# Altium footprint library SOD962.PcbLib: 1 footprints
Each footprint in its own frame and in the unit in brackets; x right, y up, seen from the top. Pads: shape width x height; smd on the part's side, far side on the other; paste and mask are expansions set on the pad; w line width, h text height; cw(c..) or ccw(c..) is an arc to the next point about the centre after c.
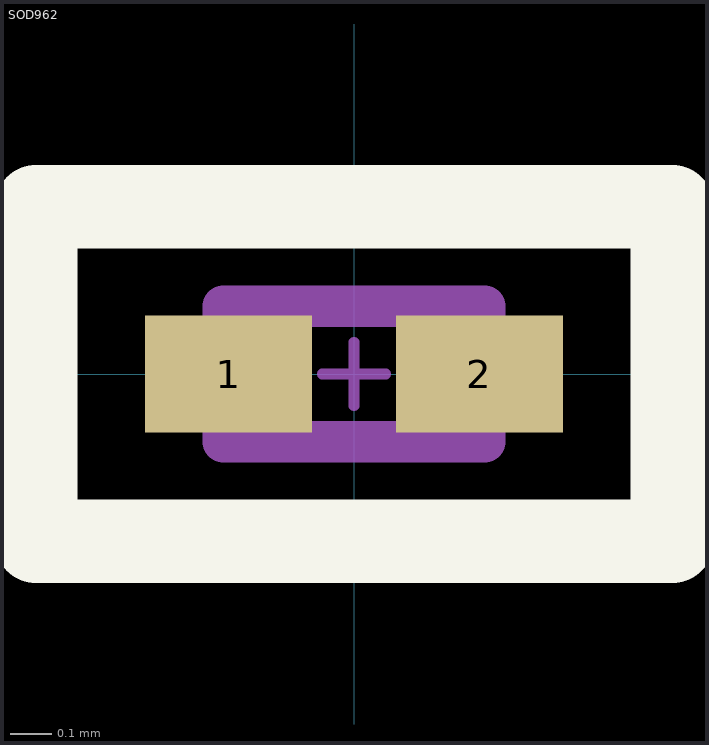
[diagram p0: the footprint, top view; thin cyan lines are the x and y axes]

## SOD962 [mm]
pads (2):
  rect 0.4x0.28 smd mask+0.051: 1(-0.3,0) 2(0.3,0)
Top Overlay:
  lines w0.2: -0.762,-0.4 -0.762,0.4 0.762,0.4 0.762,-0.4 -0.762,-0.4
Mechanical 13:
  lines w0.1: -0.313,-0.162 0.312,-0.162 0.312,0.162 -0.313,0.162 -0.313,-0.162
Mechanical 15:
  lines w0.025: -0.076,0 0.076,0 ; 0,-0.076 0,0.076
3D body "SOD962-2_DSN0603-2_NEX.step": height 0.33, standoff 0, extent -0.318,-0.165 0.318,0.165